# Altium footprint library PTA2043.PcbLib: 1 footprints
Each footprint in its own frame and in the unit in brackets; x right, y up, seen from the top. Pads: shape width x height; smd on the part's side, far side on the other; paste and mask are expansions set on the pad; w line width, h text height; cw(c..) or ccw(c..) is an arc to the next point about the centre after c.
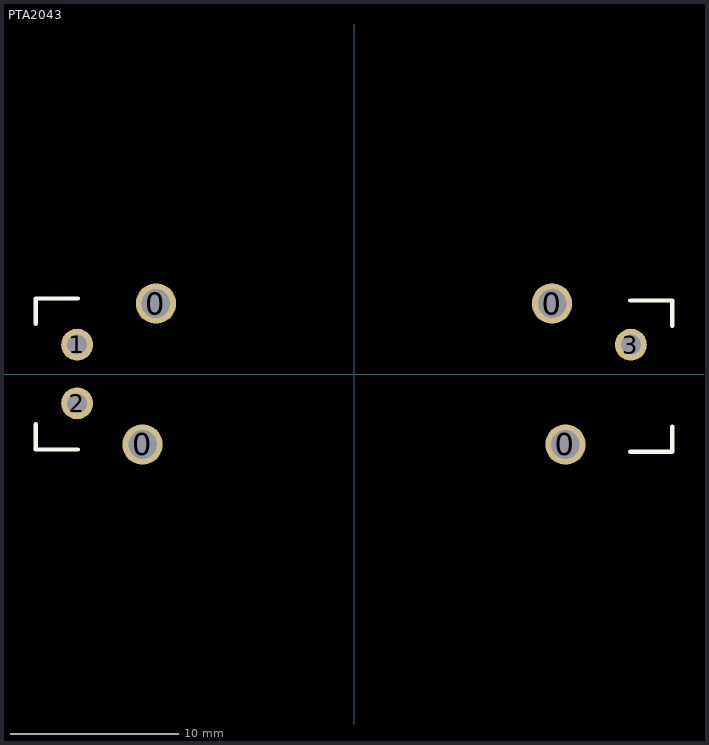
[diagram p0: the footprint, top view; thin cyan lines are the x and y axes]

## PTA2043 [mm] "PTA2043 Single Gang Potentiometer"
pads (7):
  round 2.4 hole 1.7: 0(-12.6,-4.2) 0(-11.8,4.2) 0(11.8,4.2) 0(12.6,-4.2)
  round 1.9 hole 1.194: 1(-16.5,1.75) 2(-16.5,-1.75) 3(16.5,1.75)
Top Overlay:
  lines w0.254: -18.958,-3 -18.958,-4.5 -16.458,-4.5 ; -18.958,3 -18.958,4.5 -16.458,4.5 ; 16.458,-4.627 18.958,-4.627 18.958,-3.127 ; 16.458,4.373 18.958,4.373 18.958,2.873